# Altium footprint library RES-SMD-0805.PcbLib: 70 footprints (part 2 of 5)
Each footprint in its own frame and in the unit in brackets; x right, y up, seen from the top. Pads: shape width x height; smd on the part's side, far side on the other; paste and mask are expansions set on the pad; w line width, h text height; cw(c..) or ccw(c..) is an arc to the next point about the centre after c.
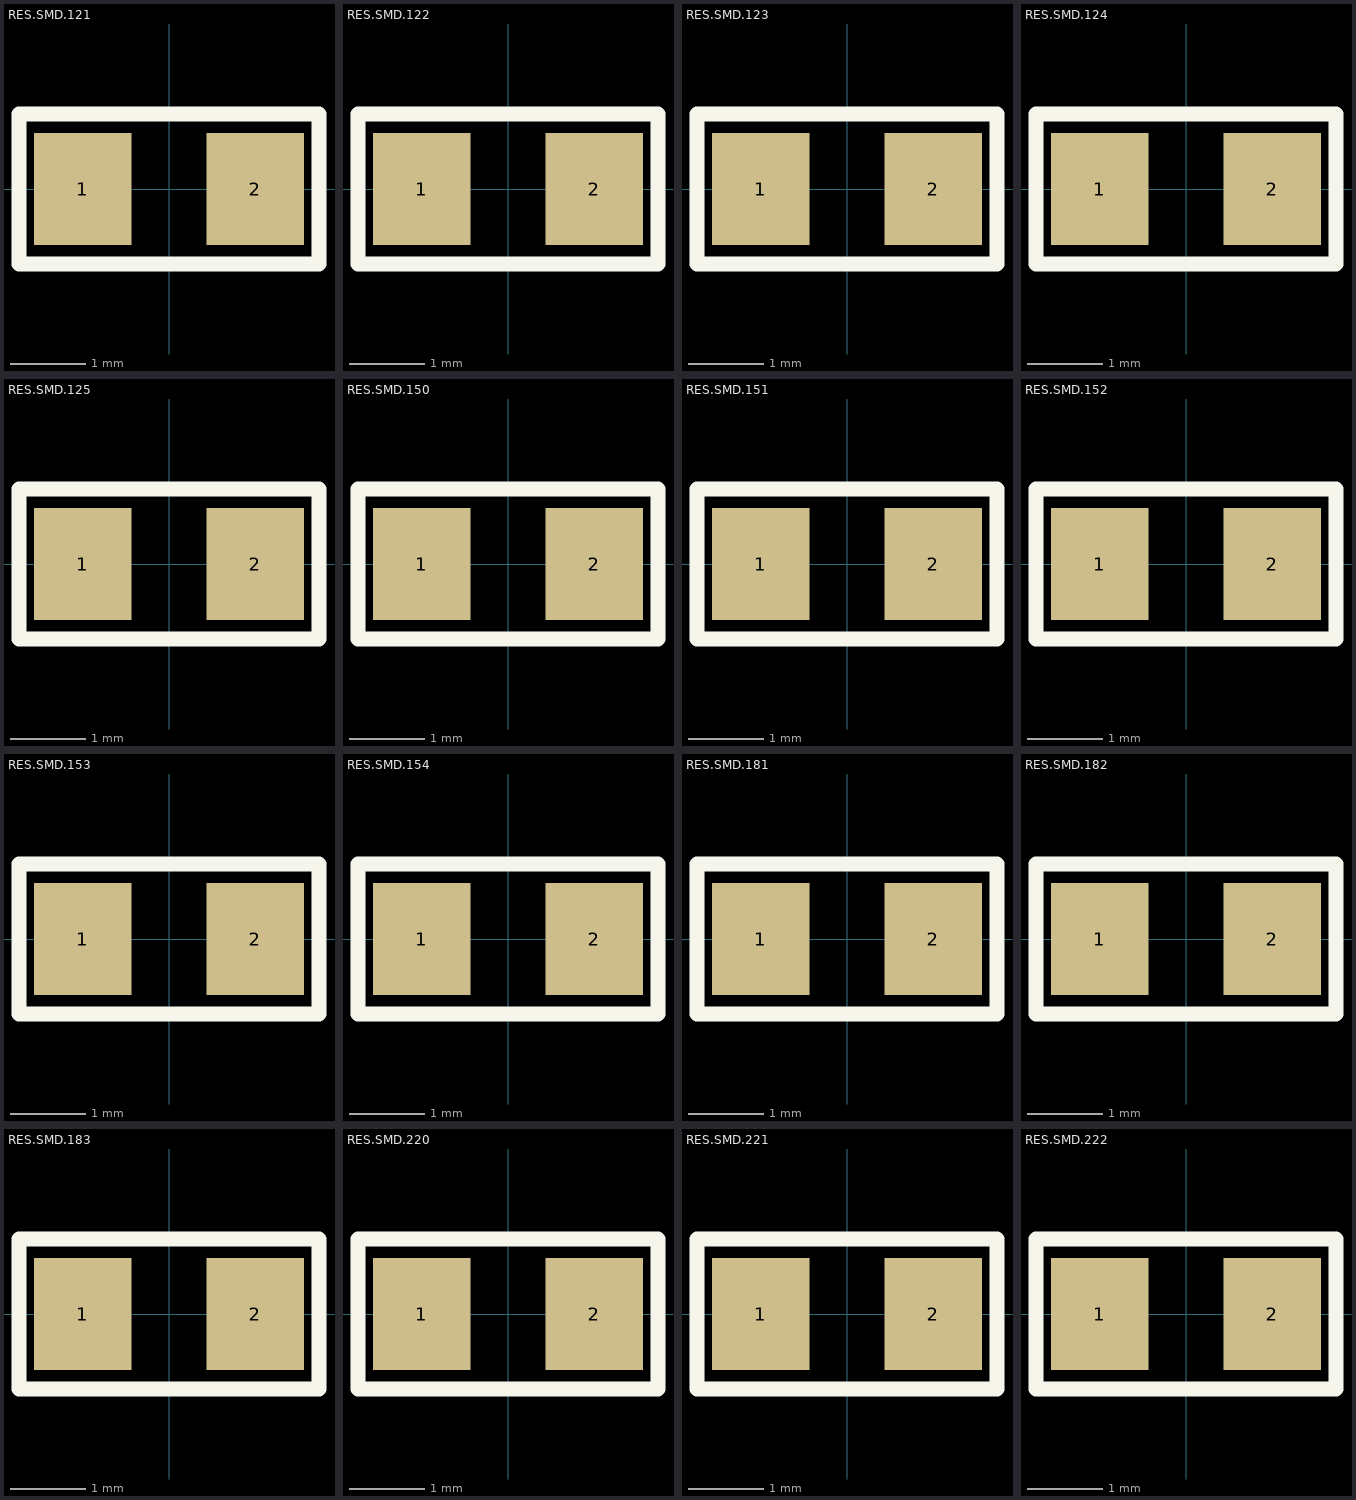
[diagram p1: the footprints below, top view; thin cyan lines are the x and y axes]

## RES.SMD.121 [mm] "5% 0805 1/8W RES.SMD"
pads (2):
  rect 1.3x1.5 smd: 1(-1.15,0) 2(1.15,0)
Top Overlay:
  lines w0.2: -2,-1 2,-1 2,1 -2,1 -2,-1
3D body "RES-SMD-121.stp": height 0.48, standoff -0.02, extent -0.873,-0.625 1.127,0.625

## RES.SMD.122 [mm] "5% 0805 1/8W RES.SMD"
pads (2):
  rect 1.3x1.5 smd: 1(-1.15,0) 2(1.15,0)
Top Overlay:
  lines w0.2: -2,-1 2,-1 2,1 -2,1 -2,-1
3D body "RES-SMD-122.stp": height 0.48, standoff -0.02, extent -0.873,-0.625 1.127,0.625

## RES.SMD.123 [mm] "5% 0805 1/8W RES.SMD"
pads (2):
  rect 1.3x1.5 smd: 1(-1.15,0) 2(1.15,0)
Top Overlay:
  lines w0.2: -2,-1 -2,1 2,1 2,-1 -2,-1
3D body "RES-SMD-123.stp": height 0.48, standoff -0.02, extent -0.873,-0.625 1.127,0.625

## RES.SMD.124 [mm] "5% 0805 1/8W RES.SMD"
pads (2):
  rect 1.3x1.5 smd: 1(-1.15,0) 2(1.15,0)
Top Overlay:
  lines w0.2: -2,-1 -2,1 2,1 2,-1 -2,-1
3D body "RES-SMD-124.stp": height 0.48, standoff -0.02, extent -0.873,-0.625 1.127,0.625

## RES.SMD.125 [mm] "5% 0805 1/8W RES.SMD"
pads (2):
  rect 1.3x1.5 smd: 1(-1.15,0) 2(1.15,0)
Top Overlay:
  lines w0.2: -2,-1 -2,1 2,1 2,-1 -2,-1
3D body "RES-SMD-125.stp": height 0.48, standoff -0.02, extent -0.873,-0.625 1.127,0.625

## RES.SMD.150 [mm] "5% 0805 1/8W RES.SMD"
pads (2):
  rect 1.3x1.5 smd: 1(-1.15,0) 2(1.15,0)
Top Overlay:
  lines w0.2: -2,-1 -2,1 2,1 2,-1 -2,-1
3D body "RES-SMD-150.stp": height 0.48, standoff -0.02, extent -0.873,-0.625 1.127,0.625

## RES.SMD.151 [mm] "5% 0805 1/8W RES.SMD"
pads (2):
  rect 1.3x1.5 smd: 1(-1.15,0) 2(1.15,0)
Top Overlay:
  lines w0.2: -2,-1 -2,1 2,1 2,-1 -2,-1
3D body "RES-SMD-151.stp": height 0.48, standoff -0.02, extent -0.873,-0.625 1.127,0.625

## RES.SMD.152 [mm] "5% 0805 1/8W RES.SMD"
pads (2):
  rect 1.3x1.5 smd: 1(-1.15,0) 2(1.15,0)
Top Overlay:
  lines w0.2: -2,-1 -2,1 2,1 2,-1 -2,-1
3D body "RES-SMD-152.stp": height 0.48, standoff -0.02, extent -0.873,-0.625 1.127,0.625

## RES.SMD.153 [mm] "5% 0805 1/8W RES.SMD"
pads (2):
  rect 1.3x1.5 smd: 1(-1.15,0) 2(1.15,0)
Top Overlay:
  lines w0.2: -2,-1 -2,1 2,1 2,-1 -2,-1
3D body "RES-SMD-153.stp": height 0.48, standoff -0.02, extent -0.873,-0.625 1.127,0.625

## RES.SMD.154 [mm] "5% 0805 1/8W RES.SMD"
pads (2):
  rect 1.3x1.5 smd: 1(-1.15,0) 2(1.15,0)
Top Overlay:
  lines w0.2: -2,-1 -2,1 2,1 2,-1 -2,-1
3D body "RES-SMD-154.stp": height 0.48, standoff -0.02, extent -0.873,-0.625 1.127,0.625

## RES.SMD.181 [mm] "5% 0805 1/8W RES.SMD"
pads (2):
  rect 1.3x1.5 smd: 1(-1.15,0) 2(1.15,0)
Top Overlay:
  lines w0.2: -2,-1 -2,1 2,1 2,-1 -2,-1
3D body "RES-SMD-181.stp": height 0.48, standoff -0.02, extent -0.873,-0.625 1.127,0.625

## RES.SMD.182 [mm] "5% 0805 1/8W RES.SMD"
pads (2):
  rect 1.3x1.5 smd: 1(-1.15,0) 2(1.15,0)
Top Overlay:
  lines w0.2: -2,-1 -2,1 2,1 2,-1 -2,-1
3D body "RES-SMD-182.stp": height 0.48, standoff -0.02, extent -0.873,-0.625 1.127,0.625

## RES.SMD.183 [mm] "5% 0805 1/8W RES.SMD"
pads (2):
  rect 1.3x1.5 smd: 1(-1.15,0) 2(1.15,0)
Top Overlay:
  lines w0.2: -2,-1 -2,1 2,1 2,-1 -2,-1
3D body "RES-SMD-183.stp": height 0.48, standoff -0.02, extent -0.873,-0.625 1.127,0.625

## RES.SMD.220 [mm] "5% 0805 1/8W RES.SMD"
pads (2):
  rect 1.3x1.5 smd: 1(-1.15,0) 2(1.15,0)
Top Overlay:
  lines w0.2: -2,-1 -2,1 2,1 2,-1 -2,-1
3D body "RES-SMD-220.stp": height 0.48, standoff -0.02, extent -0.873,-0.625 1.127,0.625

## RES.SMD.221 [mm] "5% 0805 1/8W RES.SMD"
pads (2):
  rect 1.3x1.5 smd: 1(-1.15,0) 2(1.15,0)
Top Overlay:
  lines w0.2: -2,-1 -2,1 2,1 2,-1 -2,-1
3D body "RES-SMD-221.stp": height 0.48, standoff -0.02, extent -0.873,-0.625 1.127,0.625

## RES.SMD.222 [mm] "5% 0805 1/8W RES.SMD"
pads (2):
  rect 1.3x1.5 smd: 1(-1.15,0) 2(1.15,0)
Top Overlay:
  lines w0.2: -2,-1 2,-1 2,1 -2,1 -2,-1
3D body "RES-SMD-222.stp": height 0.48, standoff -0.02, extent -0.873,-0.625 1.127,0.625